# Altium schematic symbol library Main_MCU.SCHLIB: 34 symbols
Pins are listed as number, name and electrical type; pins without a type are passive.

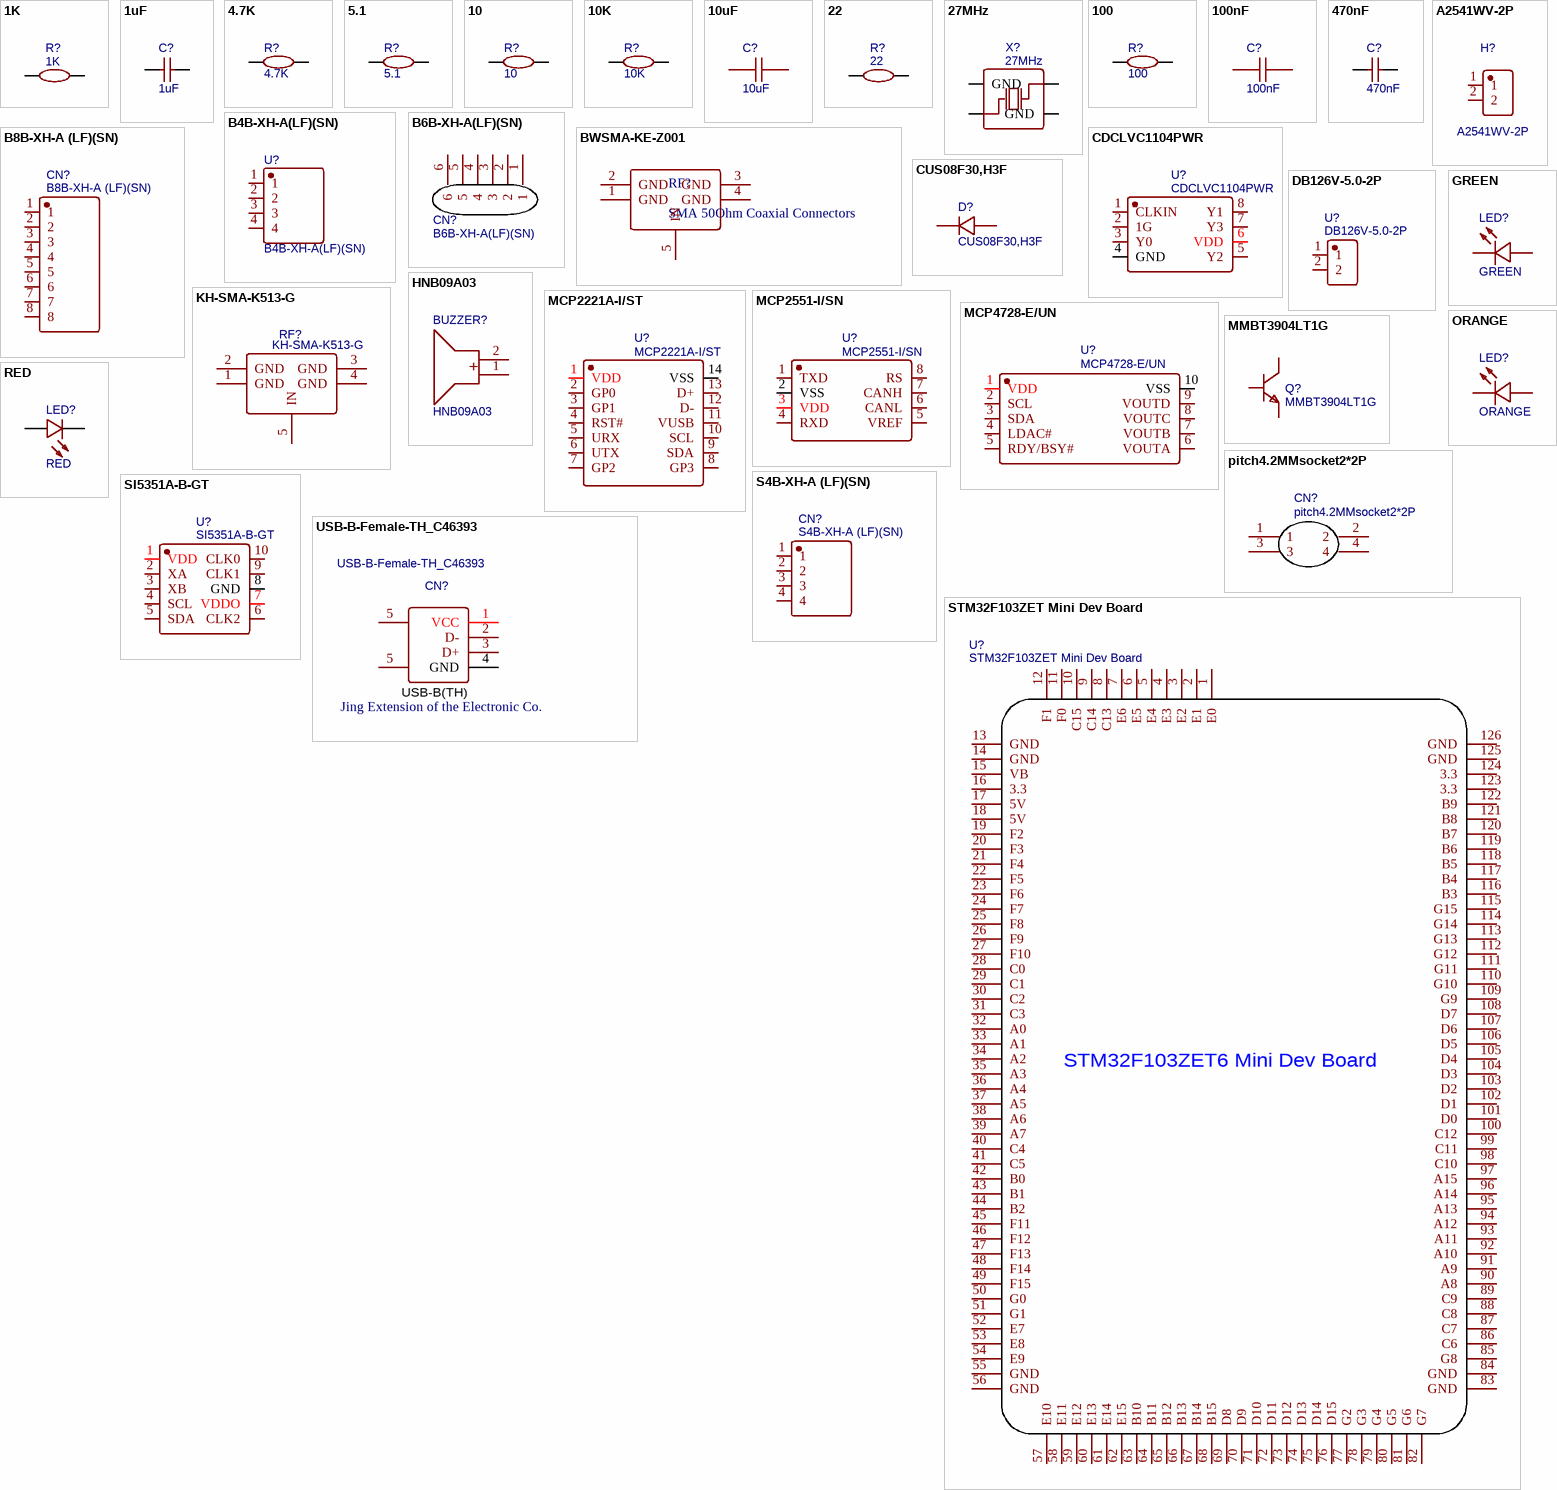
[diagram p0: symbols 1K to USB-B-Female-TH_C46393]

## 1K
designator R?
Manufacture Part Number: RC0603FR-071KL; Manufacturer: YAGEO; nameAlias: Resistance (Ohms); Supplier: LCSC; Supplier Part Number: C22548; spicePre: R; spiceSymbolName: RC0603FR-071KL
footprint R0603
pins: 1, 2

## 1uF
designator C?
Manufacture Part Number: CL10A105KP8NNNC; Manufacturer: SAMSUNG; nameAlias: Capacitance; Supplier: LCSC; Supplier Part Number: C26413; spicePre: C; spiceSymbolName: CL10A105KP8NNNC
footprint C0805
pins: 1, 2

## 4.7K
designator R?
Manufacturer: YAGEO; Manufacture Part Number: RC0603FR-074K7L; nameAlias: Resistance (Ohms); Supplier: LCSC; Supplier Part Number: C99782; spicePre: R; spiceSymbolName: RC0603FR-074K7L
footprint R0603
pins: 1, 2

## 5.1
designator R?
Manufacturer: UniOhm; Manufacture Part Number: 0603WAF510KT5E; nameAlias: Resistance (Ohms); SMT Type: Basic; Supplier: LCSC; BOM_LCSC Assembly: Yes; Supplier Part Number: C25197; spicePre: R; spiceSymbolName: 0603WAF510KT5E
footprint R0603
pins: 1, 2

## 10
designator R?
Manufacturer: YAGEO; Manufacture Part Number: RC0603FR-0710RL; nameAlias: Resistance (Ohms); Supplier: LCSC; Supplier Part Number: C109318; spicePre: R; spiceSymbolName: RC0603FR-0710RL
footprint R0603
pins: 1, 2

## 10K
designator R?
Manufacturer: YAGEO; Manufacture Part Number: RC0603FR-0710KL; nameAlias: Resistance (Ohms); Supplier: LCSC; Supplier Part Number: C98220; spicePre: R; spiceSymbolName: RC0603FR-0710KL
footprint R0603
pins: 1, 2

## 10uF
designator C?
Manufacturer: SAMSUNG; Manufacture Part Number: CL21B106KOQNNNE; nameAlias: Capacitance; Supplier: LCSC; Supplier Part Number: C95841; spicePre: C; spiceSymbolName: CL21B106KOQNNNE
footprint C0805
pins: 1, 2

## 22
designator R?
Manufacturer: UniOhm; Manufacture Part Number: 0603WAJ0220T5E; nameAlias: Resistance (Ohms); Supplier: LCSC; Supplier Part Number: C1203; spicePre: R; spiceSymbolName: 0603WAJ0220T5E
footprint R0603
pins: 1, 2

## 27MHz
designator X?
Manufacturer: Seiko Epson; Manufacture Part Number: Q24FA20H00238; nameAlias: Frequency; Contributor: LCSC; Supplier: LCSC; Supplier Part Number: C255960; spicePre: X; spiceSymbolName: Q24FA20H00238
footprint OSC-SMD_4P-L2.5-W2.0-BL
pins: 1 OSC1, 2 GND, 3 OSC2, 4 GND

## 100
designator R?
Manufacturer: UniOhm; Manufacture Part Number: 0603WAF1000T5E; nameAlias: Resistance (Ohms); SMT Type: Basic; Supplier: LCSC; BOM_LCSC Assembly: Yes; Supplier Part Number: C22775; spicePre: R; spiceSymbolName: 0603WAF1000T5E
footprint R0603
pins: 1, 2

## 100nF
designator C?
Manufacturer: YAGEO; Manufacture Part Number: CC0603KRX7R9BB104; nameAlias: Capacitance; SMT Type: Basic; Supplier: LCSC; BOM_LCSC Assembly: Yes; Supplier Part Number: C14663; spicePre: C; spiceSymbolName: CC0603KRX7R9BB104
footprint C0603
pins: 1, 2

## 470nF
designator C?
Manufacturer: WTC; Manufacture Part Number: 0603B474K100; nameAlias: Capacitance; Contributor: LCSC; Supplier: LCSC; Supplier Part Number: C123513; spicePre: C; spiceSymbolName: 0603B474K100
footprint C0603
pins: 1, 2

## A2541WV-2P
designator H?
Manufacturer: CJT(Changjiang Connectors); Contributor: LCSC; Supplier: LCSC; Supplier Part Number: C225477; Manufacture Part Number: A2541WV-2P; spicePre: H; spiceSymbolName: A2541WV-2P
footprint HDR-TH_P2.54-H-M_A2541WV-2P
pins: 1, 2

## B4B-XH-A(LF)(SN)
designator U?
Manufacturer: JST Sales America; Contributor: LCSC; Supplier: LCSC; Supplier Part Number: C144395; Manufacture Part Number: B4B-XH-A(LF)(SN); spicePre: U; spiceSymbolName: B4B-XH-A(LF)(SN)
footprint CONN-TH_B4B-XH-A (LF)(SN)
pins: 1, 2, 3, 4

## B6B-XH-A(LF)(SN)
designator CN?
Manufacturer: JST Sales America; Contributor: LCSC; Supplier: LCSC; Supplier Part Number: C144397; Manufacture Part Number: B6B-XH-A(LF)(SN); spicePre: U; spiceSymbolName: B6B-XH-A(LF)(SN)
footprint CONN-TH_6P-P2.50_B6B-XH-A(LF)(SN)
pins: 1, 2, 3, 4, 5, 6

## B8B-XH-A (LF)(SN)
designator CN?
Manufacturer: JST Sales America; Contributor: LCSC; Supplier: LCSC; Supplier Part Number: C157972; Manufacture Part Number: -; spicePre: C; spiceSymbolName: B8B-XH-A (LF)(SN)
footprint CONN-TH_B8B-XH-A (LF)(SN)
pins: 1, 2, 3, 4, 5, 6, 7, 8

## BWSMA-KE-Z001
designator RF?, comment SMA 50Ohm Coaxial Connectors
Manufacturer: BAT WIRELESS; Manufacture Part Number: BWSMA-KE-Z001; Supplier: LCSC; Supplier Part Number: C496549
footprint BWSMA-KE-Z001 (SMA 50Ohm Coaxial Connectors)
pins: 1 GND, 2 GND, 3 GND, 4 GND, 5 IN

## CDCLVC1104PWR
designator U?
Manufacturer: Texas Instruments; Contributor: LCSC; SMT Type: Extend; Supplier: LCSC; Supplier Part Number: C485518; Manufacture Part Number: CDCLVC1104PWR; BOM_LCSC Assembly: Yes; spicePre: U; spiceSymbolName: CDCLVC1104PWR
footprint TSSOP-8_L4.4-W3.0-P0.65-LS6.4-BL
pins: 1 CLKIN, 2 1G, 3 Y0, 4 GND, 5 Y2, 6 VDD, 7 Y3, 8 Y1

## CUS08F30,H3F
designator D?
Manufacturer: TOSHIBA; Contributor: LCSC; SMT Type: Extend; Supplier Part Number: C150183; Supplier: LCSC; Manufacture Part Number: CUS08F30,H3F; BOM_LCSC Assembly: Yes; spicePre: D; spiceSymbolName: CUS08F30,H3F
footprint SOD-323F_L2.0-W1.6-LS2.5-RD
pins: 1 C, 2 A

## DB126V-5.0-2P
designator U?
Manufacturer: DIBO; Contributor: LCSC; Supplier: LCSC; Supplier Part Number: C395849; Manufacture Part Number: DB126V-5.0-2P; spicePre: U; spiceSymbolName: DB126V-5.0-2P
footprint CONN-TH_2P-P5.00_L7.8-W10.0
pins: 1, 2

## GREEN
designator LED?
Manufacturer: Orient; Manufacture Part Number: ORH-G36G; Contributor: LCSC; SMT Type: Extend; Supplier: LCSC; Supplier Part Number: C205443; BOM_LCSC Assembly: Yes; spicePre: L; spiceSymbolName: ORH-G36G
footprint LED0603-R-RD
pins: 1 A, 2 K

## HNB09A03
designator BUZZER?
Manufacturer: Jiangsu Huaneng Elec; Contributor: LCSC; Supplier: LCSC; Supplier Part Number: C96102; Manufacture Part Number: HNB09A03; spicePre: B; spiceSymbolName: HNB09A03
footprint BUZ-TH_BD9.0-P5.00-D0.6-FD
pins: 1 +, 2 -

## KH-SMA-K513-G
designator RF?
Manufacturer: Shenzhen Kinghelm Elec; Contributor: LCSC; Supplier: LCSC; Supplier Part Number: C411575; Manufacture Part Number: KH-SMA-K513-G; spicePre: R; spiceSymbolName: KH-SMA-K513-G
footprint ANT-TH_KH-SMA-K513-G
pins: 1 GND, 2 GND, 3 GND, 4 GND, 5 IN

## MCP2221A-I/ST
designator U?
Manufacturer: MICROCHIP; Contributor: LCSC; SMT Type: Extend; Supplier: LCSC; Manufacture Part Number: MCP2221A-I/ST; Supplier Part Number: C130462; BOM_LCSC Assembly: Yes; spicePre: U; spiceSymbolName: MCP2221A-I/ST
footprint TSSOP-14_L5.0-W4.4-P0.65-LS6.4-BL
pins: 1 VDD, 2 GP0, 3 GP1, 4 RST#, 5 URX, 6 UTX, 7 GP2, 8 GP3, 9 SDA, 10 SCL, 11 VUSB, 12 D-, 13 D+, 14 VSS

## MCP2551-I/SN
designator U?
Manufacturer: MICROCHIP; SMT Type: Extend; Supplier: LCSC; Manufacture Part Number: MCP2551-I/SN; image: //image.lceda.cn/szlcsc/C7376.jpg; Supplier Part Number: C7376; BOM_LCSC Assembly: Yes; spicePre: U; spiceSymbolName: MCP2551-I/SN
footprint SOIC-8_L4.9-W3.9-P1.27-LS6.0-BL
pins: 1 TXD, 2 VSS, 3 VDD, 4 RXD, 5 VREF, 6 CANL, 7 CANH, 8 RS

## MCP4728-E/UN
designator U?
Manufacturer: Microchip Tech; Contributor: LCSC; SMT Type: Extend; Supplier: LCSC; Supplier Part Number: C108207; Manufacture Part Number: MCP4728-E/UN; BOM_LCSC Assembly: Yes; spicePre: U; spiceSymbolName: MCP4728-E/UN
footprint MSOP-10_L3.0-W3.0-P0.50-LS5.0-TL
pins: 1 VDD, 2 SCL, 3 SDA, 4 LDAC#, 5 RDY/BSY#, 6 VOUTA, 7 VOUTB, 8 VOUTC, 9 VOUTD, 10 VSS

## MMBT3904LT1G
designator Q?
Manufacturer: ON; SMT Type: Extend; Supplier: LCSC; Manufacture Part Number: MMBT3904LT1G; Supplier Part Number: C81464; BOM_LCSC Assembly: Yes; spicePre: Q; spiceSymbolName: MMBT3904LT1G
footprint SOT-23-3_L2.9-W1.6-P1.90-LS2.8-BR
pins: 1, 2, 3

## ORANGE
designator LED?
Manufacturer: Orient; Manufacture Part Number: ORH-R36A(0.6T); Contributor: LCSC; SMT Type: Extend; Supplier: LCSC; Supplier Part Number: C205445; BOM_LCSC Assembly: Yes; spicePre: L; spiceSymbolName: ORH-R36A(0.6T)
footprint LED0603-R-RD
pins: 1 A, 2 K

## pitch4.2MMsocket2*2P
designator CN?
Manufacturer: BOOMELE; Supplier: LCSC; Manufacture Part Number: pitch4.2MMsocket2*2P; image: //image.lceda.cn/szlcsc/C24697.jpg; Supplier Part Number: C24697; spicePre: C; spiceSymbolName: pitch4.2MMsocket2*2P
footprint CONN-TH_HAA420A-4A
pins: 1, 2, 3, 4

## RED
designator LED?
Manufacturer: EVERLIGHT; Manufacture Part Number: 19-217/R6C-AL1M2VY/3T; SMT Type: Extend; Supplier: LCSC; image: //image.lceda.cn/szlcsc/C72044.jpg; Supplier Part Number: C72044; BOM_LCSC Assembly: Yes; spicePre: L; spiceSymbolName: 19-217/R6C-AL1M2VY/3T
footprint LED0603-R-RD
pins: 1 A, 2 C

## S4B-XH-A (LF)(SN)
designator CN?
Manufacturer: JST Sales America; Contributor: LCSC; Supplier: LCSC; Supplier Part Number: C157925; Manufacture Part Number: S4B-XH-A(LF)(SN); spicePre: C; spiceSymbolName: S4B-XH-A (LF)(SN)
footprint CONN-TH_S4B-XH-A (LF)(SN)
pins: 1, 2, 3, 4

## SI5351A-B-GT
designator U?
Manufacturer: SILICON LABS; Contributor: LCSC; Supplier: LCSC; Supplier Part Number: C529366; Manufacture Part Number: SI5351A-B-GT; spicePre: U; spiceSymbolName: SI5351A-B-GT
footprint MSOP-10_L3.0-W3.0-P0.50-LS5.0-BL
pins: 1 VDD, 2 XA, 3 XB, 4 SCL, 5 SDA, 6 CLK2, 7 VDDO, 8 GND, 9 CLK1, 10 CLK0

## STM32F103ZET Mini Dev Board
designator U?
Contributor: FYP_Squad; spicePre: U; spiceSymbolName: STM32F103ZET Mini Dev Board
footprint STM32F103ZET MINI DEV BOARD
pins: 1 E0, 2 E1, 3 E2, 4 E3, 5 E4, 6 E5, 7 E6, 8 C13, 9 C14, 10 C15, 11 F0, 12 F1, 13 GND, 14 GND, 15 VB, 16 3.3, 17 5V, 18 5V, 19 F2, 20 F3, 21 F4, 22 F5, 23 F6, 24 F7, 25 F8, 26 F9, 27 F10, 28 C0, 29 C1, 30 C2, 31 C3, 32 A0, 33 A1, 34 A2, 35 A3, 36 A4, 37 A5, 38 A6, 39 A7, 40 C4, 41 C5, 42 B0, 43 B1, 44 B2, 45 F11, 46 F12, 47 F13, 48 F14, 49 F15, 50 G0, 51 G1, 52 E7, 53 E8, 54 E9, 55 GND, 56 GND, 57 E10, 58 E11, 59 E12, 60 E13, 61 E14, 62 E15, 63 B10, 64 B11, 65 B12, 66 B13, 67 B14, 68 B15, 69 D8, 70 D9, 71 D10, 72 D11, 73 D12, 74 D13, 75 D14, 76 D15, 77 G2, 78 G3, 79 G4, 80 G5, 81 G6, 82 G7, 83 GND, 84 GND, 85 G8, 86 C6, 87 C7, 88 C8, 89 C9, 90 A8, 91 A9, 92 A10, 93 A11, 94 A12, 95 A13, 96 A14, 97 A15, 98 C10, 99 C11, 100 C12, 101 D0, 102 D1, 103 D2, 104 D3, 105 D4, 106 D5, 107 D6, 108 D7, 109 G9, 110 G10, 111 G11, 112 G12, 113 G13, 114 G14, 115 G15, 116 B3, 117 B4, 118 B5, 119 B6, 120 B7, 121 B8, 122 B9, 123 3.3, 124 3.3, 125 GND, 126 GND
text: STM32F103ZET6 Mini Dev Board

## USB-B-Female-TH_C46393
designator CN?  Manufacturer: Jing Extension of the Electronic Co.
Manufacture Part Number: C46393; Supplier: LCSC; image: //image.lceda.cn/szlcsc/C46393.jpg; Supplier Part Number: C46393; spicePre: C; spiceSymbolName: USB-B-Female-TH_C46393
footprint USB-B_TH_BF90
pins: 1 VCC, 2 D-, 3 D+, 4 GND, 5 EH, 5 EH
text: USB-B(TH)